# EAGLE library part ISO1042BDWVR (library ISO1042BDWVR)
Isolated CAN Transceiver With 70-V Bus Fault Protection and Flexible Data Rate Source: Datasheet <http://www.ti.com/lit/gpn/ISO1042>
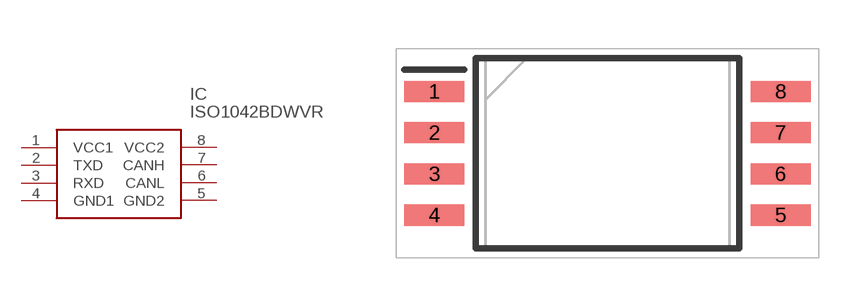
[diagram p0: symbol with the pads of SOIC127P1150X280-8N; footprint SOIC127P1150X280-8N]

Designator prefix IC

## ISO1042BDWVR (Description: Isolated CAN Transceiver With 70-V Bus Fault Protection and Flexible Data Rate; Height: 2.8mm; Manufacturer_Name: Texas Instruments; Manufacturer_Part_Number: ISO1042BDWVR; Mouser_Part_Number: 595-ISO1042BDWVR; Mouser_Price-Stock: https://www.mouser.co.uk/ProductDetail/Texas-Instruments/ISO1042BDWVR?qs=qSfuJ%252Bfl%2Fd68DAhWt0GTEQ%3D%3D)  [SOIC127P1150X280-8N]
1  VCC1
2  TXD
3  RXD
4  GND1
5  GND2
6  CANL
7  CANH
8  VCC2

## Footprint SOIC127P1150X280-8N (pad centres in mm)
DWV0008A
smd 1.85 x 0.65: 1 -5.325,1.905; 2 -5.325,0.635; 3 -5.325,-0.635; 4 -5.325,-1.905; 5 5.325,-1.905; 6 5.325,-0.635; 7 5.325,0.635; 8 5.325,1.905